# Altium integrated library Pixracer_V1_FMU_Alternative.IntLib: 31 symbols
Pins are listed as number, name and electrical type; pins without a type are passive.

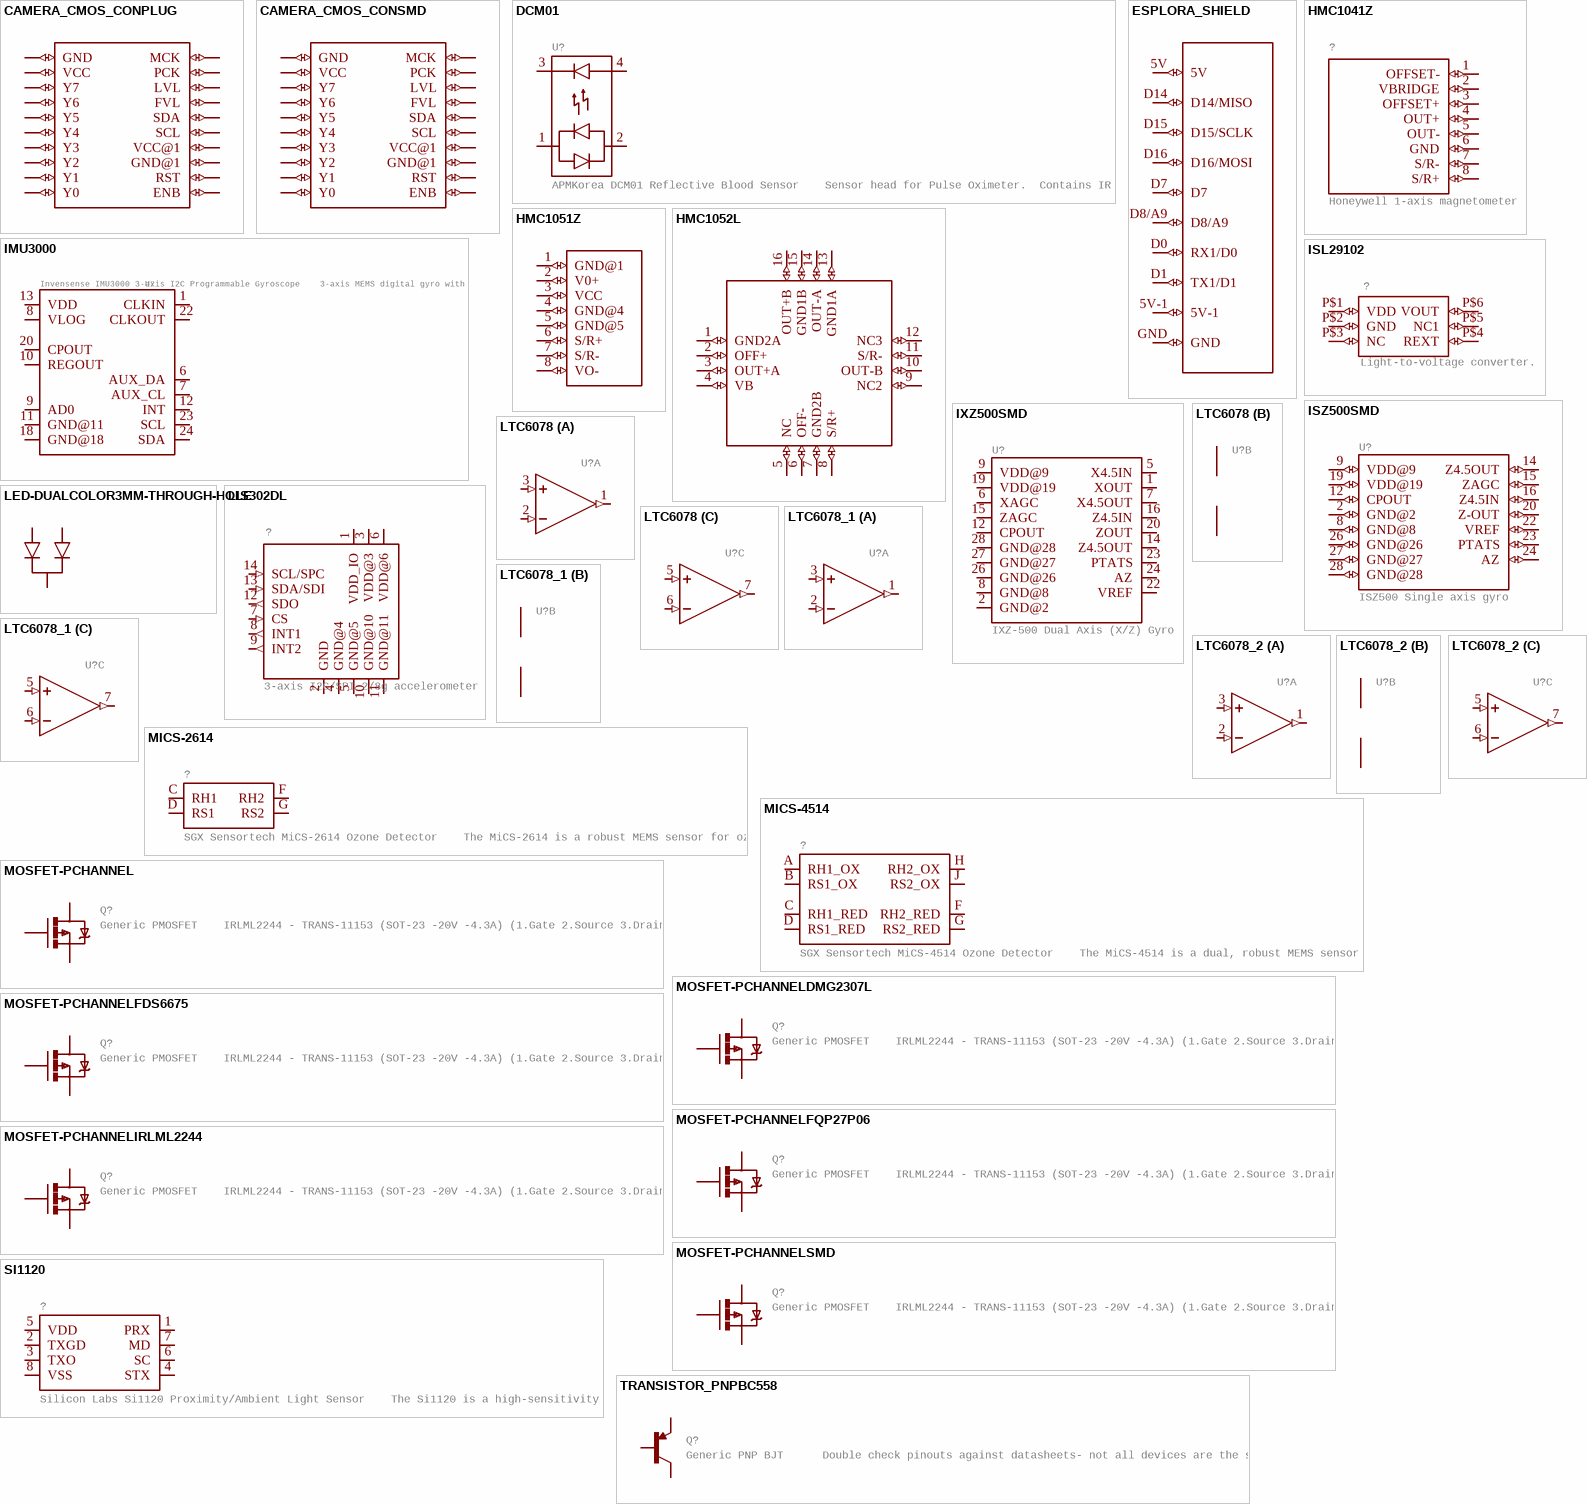
[diagram p0: symbols CAMERA_CMOS_CONPLUG to TRANSISTOR_PNPBC558]

## CAMERA_CMOS_CONPLUG
designator ?, comment 640x480 CMOS Color CameraFootprint proven. Spark Fun Electronics Camera SKU : SEN-00637, Mating Connector SKU : SEN-00638  (value not drawn)
GateName_1: G$1; SymbolName_1: CAMERA_CMOS_CON; DeviceName: PLUG; LibraryName: User-Submitted; DeviceSetName: CAMERA_CMOS_CON; Package: CAMERA_CMOS_PLUG
footprint CAMERA_CMOS_PLUG
pins: 1 Y0 (io), 2 Y1 (io), 3 Y2 (io), 4 Y3 (io), 5 Y4 (io), 6 Y5 (io), 7 Y6 (io), 8 Y7 (io), 9 VCC (io), 10 GND (io), 11 ENB (io), 12 RST (io), 13 GND@1 (io), 14 VCC@1 (io), 15 SCL (io), 16 SDA (io), 17 FVL (io), 18 LVL (io), 19 PCK (io), 20 MCK (io)

## CAMERA_CMOS_CONSMD
designator ?, comment 640x480 CMOS Color CameraFootprint proven. Spark Fun Electronics Camera SKU : SEN-00637, Mating Connector SKU : SEN-00638  (value not drawn)
GateName_1: G$1; SymbolName_1: CAMERA_CMOS_CON; DeviceName: SMD; LibraryName: User-Submitted; DeviceSetName: CAMERA_CMOS_CON; Package: CAMERA_CMOS_CON
footprint CAMERA_CMOS_CON
pins: ENB (io), FVLD FVL (io), GND (io), GND@1 (io), LVLD LVL (io), MCLK MCK (io), PCLK PCK (io), RST (io), SCL (io), SDA (io), VCC (io), VCC@1 (io), Y0 (io), Y1 (io), Y2 (io), Y3 (io), Y4 (io), Y5 (io), Y6 (io), Y7 (io)

## DCM01
designator U?, comment APMKorea DCM01 Reflective Blood Sensor    Sensor head for Pulse Oximeter.  Contains IR and visible red LEDs, and PIN photodiode.   Datasheet
GateName_1: G$1; PROD_ID: IC-10303; SymbolName_1: DCM01; LibraryName: User-Submitted; DeviceSetName: DCM01; Package: DCM01
footprint DCM01
pins: 1, 2, 3, 4

## ESPLORA_SHIELD
designator ?
GateName_1: G$1; SymbolName_1: ESPLORA_SHIELD; LibraryName: User-Submitted; DeviceSetName: ESPLORA_SHIELD; Package: ESPLORA_SHIELD
footprint ESPLORA_SHIELD
pins: 5V (io), 5V-1 (io), D0 RX1/D0 (io), D1 TX1/D1 (io), D7 (io), D8/A9 (io), D14 D14/MISO (io), D15 D15/SCLK (io), D16 D16/MOSI (io), GND (io)

## HMC1041Z
designator ?, comment Honeywell 1-axis magnetometer
GateName_1: G$1; SymbolName_1: HMC1041Z; LibraryName: User-Submitted; DeviceSetName: HMC1041Z; Package: HMC1041Z
footprint HMC1041Z
pins: 1 OFFSET- (io), 2 VBRIDGE (io), 3 OFFSET+ (io), 4 OUT+ (io), 5 OUT- (io), 6 GND (io), 7 S/R- (io), 8 S/R+ (io)

## HMC1051Z
designator ?, comment Honeywell HMC1051Z 1-Axis Magnetometer    The  Honeywell  HMC1051Z,  HMC1051ZL,  HMC1052L and HMC1053  are magnetoresistive sensors designed for low field magnetic sensing. Various  packaging  options  have been created  from  the  basic HMC1052  sensor  chip to create  1,  2  and  3-axis  magneto-resistive  sensors  forcost effective  and small  size  solutions.  The  advantage  of  the HMC105X   family   of   sensors is   in   the   near-perfectly orthogonal   dual   sensor   on   a   single   chip   with   shared set/reset and offset coils/straps included.   Datasheet SparkFun Products  Compass Module - HMC1051Z (single axis) (COM-11071)  IMU 6DOF v4 Sensor Board (COM-08726)  IMU 6 Degrees of Freedom - v4 with Bluetooth Capability (COM-08454)  (value not drawn)
GateName_1: G$1; PROD_ID: COMP-08797; SymbolName_1: HMC1051Z; LibraryName: User-Submitted; DeviceSetName: HMC1051Z; Package: HMC1051Z3; SF_ID: COM-11071
footprint HMC1051Z3
pins: 1 GND@1 (io), 2 V0+ (io), 3 VCC (io), 4 GND@4 (io), 5 GND@5 (io), 6 S/R+ (io), 7 S/R- (io), 8 VO- (io)

## HMC1052L
designator ?, comment Honeywell HMC1052L 2-Axis Magnetometer    The  Honeywell  HMC1051Z,  HMC1051ZL,  HMC1052L and HMC1053  are magnetoresistive sensors designed for low field magnetic sensing. Various  packaging  options  have been created  from  the  basic HMC1052  sensor  chip to create  1,  2  and  3-axis  magneto-resistive  sensors  forcost effective  and small  size  solutions.  The  advantage  of  the HMC105X   family   of   sensors is   in   the   near-perfectly orthogonal   dual   sensor   on   a   single   chip   with   shared set/reset and offset coils/straps included.   Datasheet SparkFun Products  Compass Module - HMC1051Z (single axis) (COM-11071)  IMU 6DOF v4 Sensor Board (COM-08726)  IMU 6 Degrees of Freedom - v4 with Bluetooth Capability (COM-08454)  (value not drawn)
GateName_1: G$1; PROD_ID: IC-08228; SF_ID: COM-00708; SymbolName_1: HMC1052L; LibraryName: User-Submitted; DeviceSetName: HMC1052L; Package: 16LPCC
footprint 16LPCC
pins: 1 GND2A (io), 2 OFF+ (io), 3 OUT+A (io), 4 VB (io), 5 NC (io), 6 OFF- (io), 7 GND2B (io), 8 S/R+ (io), 9 NC2 (io), 10 OUT-B (io), 11 S/R- (io), 12 NC3 (io), 13 GND1A (io), 14 OUT-A (io), 15 GND1B (io), 16 OUT+B (io)

## IMU3000
designator U?, comment Invensense IMU3000 3-axis I2C Programmable Gyroscope    3-axis MEMS digital gyro with programmable ranges from +-250 to +-2000 degrees/sec. In addition, it has a secondary I2C port that interfaces with a digital accelerometer to deliver a complete 6-axis sensor output from its primary I2C port. The fusion output offloads the intensive motion processing computation requirements from the host processor, reducing the need for frequent polling of the motion sensor output and enabling low cost, low power microcontrollers.   Datasheet SparkFun Products  SparkFun Digital IMU Breakout - IMU3000 (SEN-10251)  SparkFun IMU Fusion Board - ADXL345 & IMU3000 (SEN-10252)
GateName_1: G$1; PROD_ID: IC-10050; SymbolName_1: IMU3000; LibraryName: User-Submitted; DeviceSetName: IMU3000; Package: QFN-24
footprint QFN-24
pins: 1 CLKIN (io), 6 AUX_DA (io), 7 AUX_CL (io), 8 VLOG (io), 9 AD0 (io), 10 REGOUT (io), 11 GND@11 (io), 12 INT (io), 13 VDD (io), 18 GND@18 (io), 20 CPOUT (io), 22 CLKOUT (io), 23 SCL (io), 24 SDA (io)

## ISL29102
designator ?, comment Light-to-voltage converter.
GateName_1: G$1; SymbolName_1: ISL29102; LibraryName: User-Submitted; DeviceSetName: ISL29102; Package: ODFN6
footprint ODFN6
pins: P$1 VDD (io), P$2 GND (io), P$3 NC (io), P$4 REXT (io), P$5 NC1 (io), P$6 VOUT (io)

## ISZ500SMD
designator U?, comment ISZ500 Single axis gyro
GateName_1: G$1; SymbolName_1: ISZ-500; DeviceName: SMD; LibraryName: User-Submitted; DeviceSetName: ISZ500; Package: QFN-28_6X8
footprint QFN-28_6X8
pins: 2 GND@2 (io), 8 GND@8 (io), 9 VDD@9 (io), 12 CPOUT (io), 14 Z4.5OUT (io), 15 ZAGC (io), 16 Z4.5IN (io), 19 VDD@19 (io), 20 Z-OUT (io), 22 VREF (io), 23 PTATS (io), 24 AZ (io), 26 GND@26 (io), 27 GND@27 (io), 28 GND@28 (io)

## IXZ500SMD
designator U?, comment IXZ-500 Dual Axis (X/Z) Gyro
GateName_1: G$1; SymbolName_1: IXZ500; DeviceName: SMD; LibraryName: User-Submitted; DeviceSetName: IXZ500; Package: QFN-28_6X8
footprint QFN-28_6X8
pins: 1 XOUT (io), 2 GND@2 (io), 5 X4.5IN (io), 6 XAGC (io), 7 X4.5OUT (io), 8 GND@8 (io), 9 VDD@9 (io), 12 CPOUT (io), 14 Z4.5OUT (io), 15 ZAGC (io), 16 Z4.5IN (io), 19 VDD@19 (io), 20 ZOUT (io), 22 VREF (io), 23 PTATS (io), 24 AZ (io), 26 GND@26 (io), 27 GND@27 (io), 28 GND@28 (io)

## LED-DUALCOLOR3MM-THROUGH-HOLE
designator ?
GateName_1: G$1; SymbolName_1: LED-DUALCOLOR-1; DeviceName: 3MM-THROUGH-HOLE; DeviceSetName: LED-DUALCOLOR; LibraryName: User-Submitted; Package: LED-DUALCOLOR-3MM
footprint LED-DUALCOLOR-3MM
pins: A1 (io), A2 (io), K (io)

## LIS302DL
designator ?, comment 3-axis I2C/SPI 2/8g accelerometer
GateName_1: G$1; SymbolName_1: LIS302DL; LibraryName: User-Submitted; DeviceSetName: LIS302DL; Package: LGA14
footprint LGA14
pins: 1 VDD_IO (power), 2 GND (power), 3 VDD@3 (power), 4 GND@4 (power), 5 GND@5 (power), 6 VDD@6 (power), 7 CS (in), 8 INT1 (out), 9 INT2 (out), 10 GND@10 (power), 11 GND@11 (power), 12 SDO (out), 13 SDA/SDI (in), 14 SCL/SPC (in)

## LTC6078
designator U?
GateName_1: A; SymbolName_1: OP-AMP; GateName_2: PWR; SymbolName_2: PWRN; GateName_3: B; DeviceSetName: LTC6078; SymbolName_3: OP-AMP; LibraryName: User-Submitted; Package: MSOP8
footprint MSOP8
part A pins: 1 OUT (out), 2 -IN (in), 3 +IN (in)
part B pins: 4 GND (power), 8 VCC (power)
part C pins: 5 +IN (in), 6 -IN (in), 7 OUT (out)

## LTC6078_1
designator U?
GateName_1: A; SymbolName_1: OP-AMP; GateName_2: PWR; SymbolName_2: PWRN; GateName_3: B; DeviceSetName: LTC6078; SymbolName_3: OP-AMP; LibraryName: User-Submitted; Package: MSOP8
footprint MSOP8
part A pins: 1 OUT (out), 2 -IN (in), 3 +IN (in)
part B pins: 4 GND (power), 8 VCC (power)
part C pins: 5 +IN (in), 6 -IN (in), 7 OUT (out)

## LTC6078_2
designator U?
GateName_1: A; SymbolName_1: OP-AMP; GateName_2: PWR; SymbolName_2: PWRN; GateName_3: B; DeviceSetName: LTC6078; SymbolName_3: OP-AMP; LibraryName: User-Submitted; Package: MSOP8
footprint MSOP8
part A pins: 1 OUT (out), 2 -IN (in), 3 +IN (in)
part B pins: 4 GND (power), 8 VCC (power)
part C pins: 5 +IN (in), 6 -IN (in), 7 OUT (out)

## MICS-2614
designator ?, comment SGX Sensortech MiCS-2614 Ozone Detector    The MiCS-2614 is a robust MEMS sensor for ozone (O3) detection; suitable also for gas leak detection and outdoor air quality monitoring.   Datasheet SparkFun Products  Not currently in use.
GateName_1: G$1; PROD_ID: COMP-12309; SymbolName_1: MICS-2614; LibraryName: User-Submitted; DeviceSetName: MICS-2614; Package: MICS-XXXX
footprint MICS-XXXX
pins: C RH1 (io), D RS1 (io), F RH2 (io), G RS2 (io)

## MICS-4514
designator ?, comment SGX Sensortech MiCS-4514 Ozone Detector    The MiCS-4514 is a dual, robust MEMS sensor for the detection of pollution from automobile exhausts. This device detects carbon monoxide (CO) and nitrogen dioxide (NO2).    Datasheet SparkFun Products  Not currently in use.
GateName_1: G$1; PROD_ID: COMP-12310; SymbolName_1: MICS-4514; LibraryName: User-Submitted; DeviceSetName: MICS-4514; Package: MICS-XXXX
footprint MICS-XXXX
pins: A RH1_OX (io), B RS1_OX (io), C RH1_RED (io), D RS1_RED (io), F RH2_RED (io), G RS2_RED (io), H RH2_OX (io), J RS2_OX (io)

## MOSFET-PCHANNEL
designator Q?, comment Generic PMOSFET    IRLML2244 - TRANS-11153 (SOT-23 -20V -4.3A) (1.Gate 2.Source 3.Drain)     FQP27P06 - COM-10349(TO-220 -60V -27A) (1.Gate 2.Source 3.Drain)
GateName_1: G$1; SymbolName_1: MOSFET-PCHANNEL; PROD_ID: TRANS-08285; LibraryName: User-Submitted; DeviceSetName: MOSFET-PCHANNEL; Package: SOT23-3
footprint SOT23-3
pins: 1 G, 2 S, 3 D

## MOSFET-PCHANNELDMG2307L
designator Q?, comment Generic PMOSFET    IRLML2244 - TRANS-11153 (SOT-23 -20V -4.3A) (1.Gate 2.Source 3.Drain)     FQP27P06 - COM-10349(TO-220 -60V -27A) (1.Gate 2.Source 3.Drain)
GateName_1: G$1; SymbolName_1: MOSFET-PCHANNEL; DeviceName: DMG2307L; PROD_ID: TRANS-11308; LibraryName: User-Submitted; DeviceSetName: MOSFET-PCHANNEL; Package: SOT23-3
footprint SOT23-3
pins: 1 G, 2 S, 3 D

## MOSFET-PCHANNELFDS6675
designator Q?, comment Generic PMOSFET    IRLML2244 - TRANS-11153 (SOT-23 -20V -4.3A) (1.Gate 2.Source 3.Drain)     FQP27P06 - COM-10349(TO-220 -60V -27A) (1.Gate 2.Source 3.Drain)
GateName_1: G$1; SymbolName_1: MOSFET-PCHANNEL; DeviceName: FDS6675; LibraryName: User-Submitted; DeviceSetName: MOSFET-PCHANNEL; Package: SO08
footprint SO08
pins: 1-3 S, 4 G, 5-8 D

## MOSFET-PCHANNELFQP27P06
designator Q?, comment Generic PMOSFET    IRLML2244 - TRANS-11153 (SOT-23 -20V -4.3A) (1.Gate 2.Source 3.Drain)     FQP27P06 - COM-10349(TO-220 -60V -27A) (1.Gate 2.Source 3.Drain)
GateName_1: G$1; SymbolName_1: MOSFET-PCHANNEL; DeviceName: FQP27P06; LibraryName: User-Submitted; DeviceSetName: MOSFET-PCHANNEL; Package: TO220V
footprint TO220V
pins: 1 G, 2 D, 3 S

## MOSFET-PCHANNELIRLML2244
designator Q?, comment Generic PMOSFET    IRLML2244 - TRANS-11153 (SOT-23 -20V -4.3A) (1.Gate 2.Source 3.Drain)     FQP27P06 - COM-10349(TO-220 -60V -27A) (1.Gate 2.Source 3.Drain)
GateName_1: G$1; SymbolName_1: MOSFET-PCHANNEL; DeviceName: IRLML2244; LibraryName: User-Submitted; DeviceSetName: MOSFET-PCHANNEL; Package: SOT23-3; PROD_ID: TRANS-11153
footprint SOT23-3
pins: 1 G, 2 S, 3 D

## MOSFET-PCHANNELSMD
designator Q?, comment Generic PMOSFET    IRLML2244 - TRANS-11153 (SOT-23 -20V -4.3A) (1.Gate 2.Source 3.Drain)     FQP27P06 - COM-10349(TO-220 -60V -27A) (1.Gate 2.Source 3.Drain)
GateName_1: G$1; SymbolName_1: MOSFET-PCHANNEL; DeviceName: SMD; LibraryName: User-Submitted; DeviceSetName: MOSFET-PCHANNEL; Package: SOT23-3
footprint SOT23-3
pins: 1 G, 2 S, 3 D

## SI1120
designator ?, comment Silicon Labs Si1120 Proximity/Ambient Light Sensor    The Si1120 is a high-sensitivity active infrared proximity and ambient light sensor IC, enabling innovative touchless human interface applications with ultra-low power advantages. Consisting of an infrared LED driver, an infrared photodiode, an ambient light sensor and control logic, the device is packaged in a 3 mm x 3 mm clear DFN.   Datasheet SparkFun Products  No current assemblies
GateName_1: G$1; PROD_ID: IC-09981; SymbolName_1: SI1120; LibraryName: User-Submitted; DeviceSetName: SI1120; Package: ODFN-8
footprint ODFN-8
pins: 1 PRX (io), 2 TXGD (io), 3 TXO (io), 4 STX (io), 5 VDD (io), 6 SC (io), 7 MD (io), 8 VSS (io)

## TRANSISTOR_PNPBC558
designator Q?, comment Generic PNP BJT      Double check pinouts against datasheets- not all devices are the same! MMBT3906 - 40V 200mA SOT-23 (TRANS-08052) MMBT4403 - 40V 600mA SOT-23 (TRANS-09245)
GateName_1: G$1; DeviceName: BC558; DeviceSetName: TRANSISTOR_PNP; SymbolName_1: PNP; LibraryName: User-Submitted; Package: TO-92-AMMO
footprint TO-92-AMMO
pins: 1 C, 2 B, 3 E

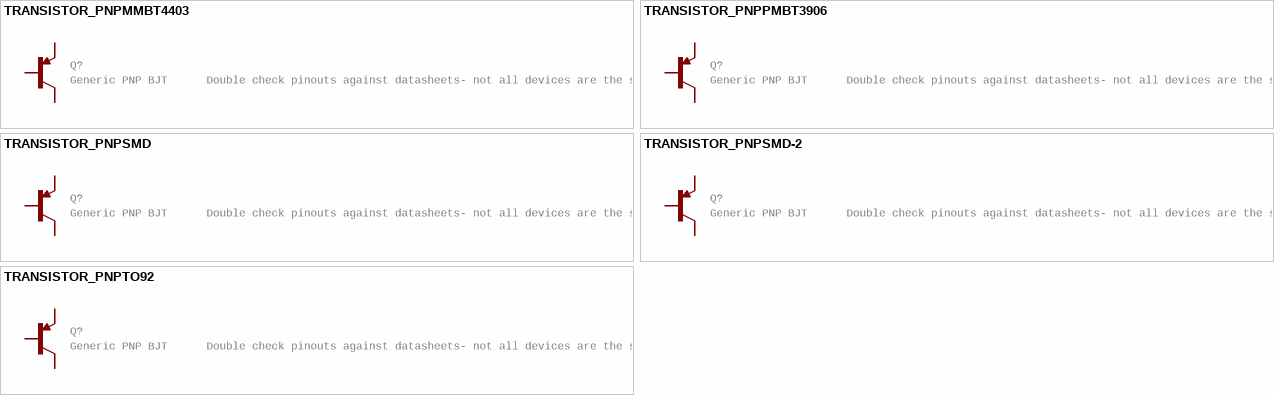
[diagram p1: symbols TRANSISTOR_PNPMMBT4403 to TRANSISTOR_PNPTO92]

## TRANSISTOR_PNPMMBT4403
designator Q?, comment Generic PNP BJT      Double check pinouts against datasheets- not all devices are the same! MMBT3906 - 40V 200mA SOT-23 (TRANS-08052) MMBT4403 - 40V 600mA SOT-23 (TRANS-09245)
GateName_1: G$1; DeviceSetName: TRANSISTOR_PNP; SymbolName_1: PNP; DeviceName: MMBT4403; LibraryName: User-Submitted; Package: SOT23-3; PROD_ID: TRANS-09245
footprint SOT23-3
pins: 1 B, 2 E, 3 C

## TRANSISTOR_PNPPMBT3906
designator Q?, comment Generic PNP BJT      Double check pinouts against datasheets- not all devices are the same! MMBT3906 - 40V 200mA SOT-23 (TRANS-08052) MMBT4403 - 40V 600mA SOT-23 (TRANS-09245)
GateName_1: G$1; DeviceName: PMBT3906; DeviceSetName: TRANSISTOR_PNP; SymbolName_1: PNP; LibraryName: User-Submitted; Package: SOT23-3; PROD_ID: TRANS-08052
footprint SOT23-3
pins: 1 B, 2 E, 3 C

## TRANSISTOR_PNPSMD
designator Q?, comment Generic PNP BJT      Double check pinouts against datasheets- not all devices are the same! MMBT3906 - 40V 200mA SOT-23 (TRANS-08052) MMBT4403 - 40V 600mA SOT-23 (TRANS-09245)
GateName_1: G$1; DeviceName: SMD; DeviceSetName: TRANSISTOR_PNP; SymbolName_1: PNP; LibraryName: User-Submitted; Package: SOT23-3
footprint SOT23-3
pins: 1 B, 2 E, 3 C

## TRANSISTOR_PNPSMD-2
designator Q?, comment Generic PNP BJT      Double check pinouts against datasheets- not all devices are the same! MMBT3906 - 40V 200mA SOT-23 (TRANS-08052) MMBT4403 - 40V 600mA SOT-23 (TRANS-09245)
GateName_1: G$1; DeviceName: SMD-2; DeviceSetName: TRANSISTOR_PNP; SymbolName_1: PNP; LibraryName: User-Submitted; Package: SOT89
footprint SOT89
pins: 1 B, 2 C, 3 E

## TRANSISTOR_PNPTO92
designator Q?, comment Generic PNP BJT      Double check pinouts against datasheets- not all devices are the same! MMBT3906 - 40V 200mA SOT-23 (TRANS-08052) MMBT4403 - 40V 600mA SOT-23 (TRANS-09245)
GateName_1: G$1; DeviceName: TO92; DeviceSetName: TRANSISTOR_PNP; SymbolName_1: PNP; LibraryName: User-Submitted; Package: TO-92
footprint TO-92
pins: 1 E, 2 B, 3 C